# Altium footprint library SOT223.PcbLib: 1 footprints
Each footprint in its own frame and in the unit in brackets; x right, y up, seen from the top. Pads: shape width x height; smd on the part's side, far side on the other; paste and mask are expansions set on the pad; w line width, h text height; cw(c..) or ccw(c..) is an arc to the next point about the centre after c.
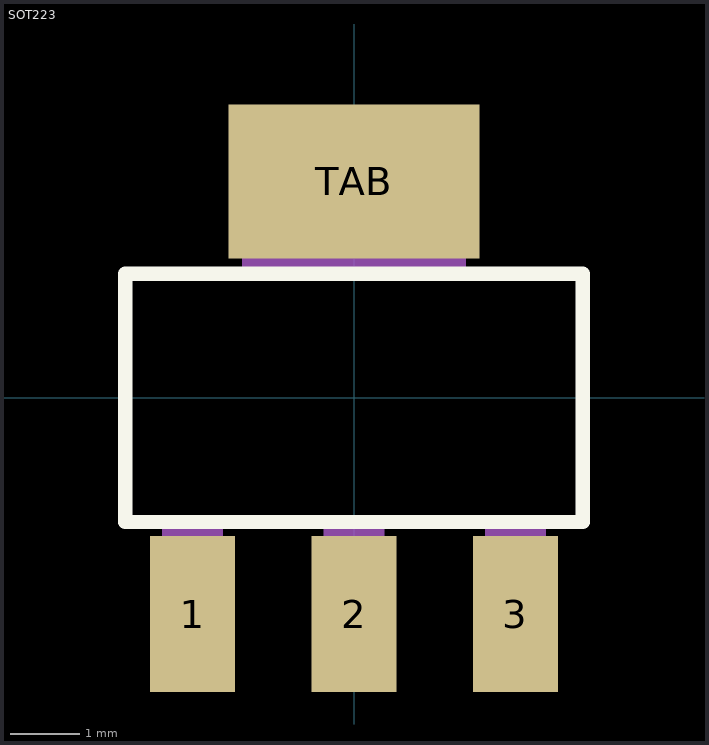
[diagram p0: the footprint, top view; thin cyan lines are the x and y axes]

## SOT223 [mm]
pads (4):
  rect 1.219x2.235 smd: 1(-2.311,-3.099) 2(0,-3.099) 3(2.311,-3.099)
  rect 3.6x2.2 smd: TAB(0,3.099)
Top Overlay:
  lines w0.203: -3.277,-1.778 -3.277,1.778 3.277,1.778 3.277,-1.778 -3.277,-1.778
Assembly Top:
  region: 2.743,-3.661 1.881,-3.661 1.881,-1.803 2.743,-1.803
  region: -1.88,-3.661 -2.746,-3.661 -2.746,-1.803 -1.88,-1.803
  region: 0.432,-3.66 -0.432,-3.66 -0.432,-1.803 0.432,-1.803
  region: 1.6,1.807 -1.603,1.807 -1.603,3.658 1.6,3.658
  region: 2.743,-3.663 1.883,-3.663 1.883,-1.803 2.743,-1.803
  region: -1.88,-3.662 -2.746,-3.662 -2.746,-1.803 -1.88,-1.803
  region: 0.432,-3.663 -0.432,-3.663 -0.432,-1.803 0.432,-1.803
  region: 1.6,1.804 -1.601,1.804 -1.601,3.658 1.6,3.658
3D body "step_temp.STEP": height 1.8, standoff 0, extent -3.25,-3.499 3.25,3.499